# Altium schematic symbol library TVS_BI.Schlib: 1 symbol
Pins are listed as number, name and electrical type; pins without a type are passive.

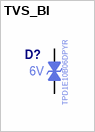
[diagram p0: symbol TVS_BI]

## TVS_BI
designator D?  Working Voltage: 6V  Manufacturer Part Number: TPD1E10B06DPYR  (hidden comment: TVS_BI)
pins: 1 C, 2 C